# Altium schematic symbol library Schlib1.SchLib: 1 symbol
Pins are listed as number, name and electrical type; pins without a type are passive.

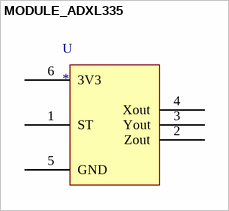
[diagram p0: symbol MODULE_ADXL335]

## MODULE_ADXL335
designator U
Accelerometre
pins: 1 ST, 2 Zout, 3 Yout, 4 Xout, 5 GND, 6 3V3